# EAGLE library part STM32F407V_NODE6 (library stm32)
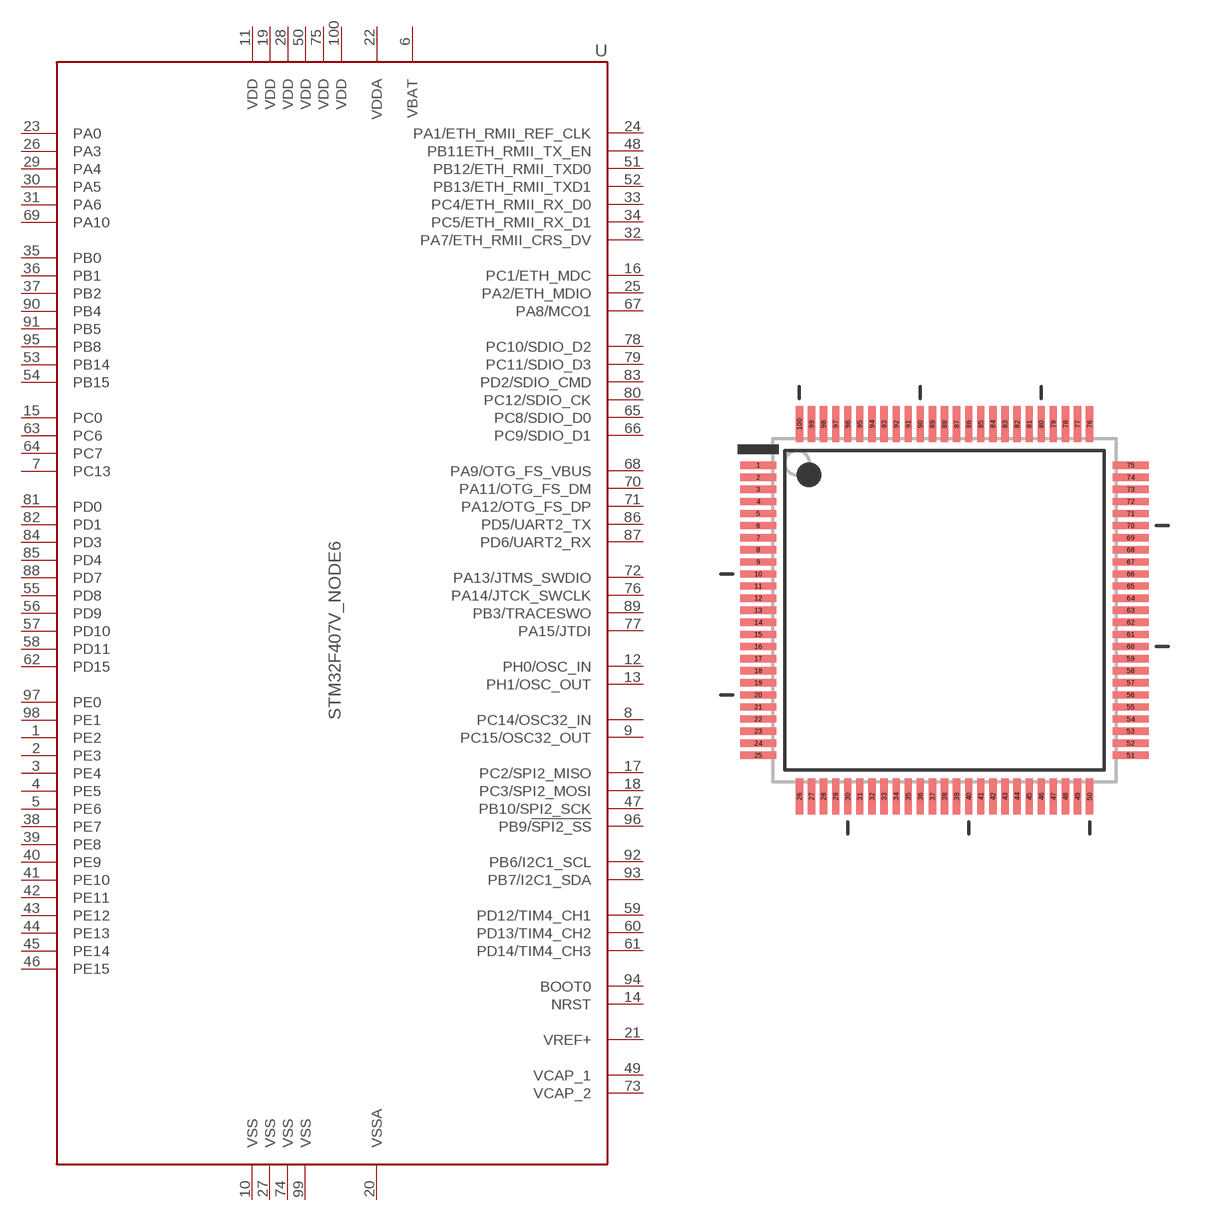
[diagram p1: symbol with the pads of QFP50P1600X1600X160-100N; footprint QFP50P1600X1600X160-100N]

Designator prefix U

## STM32F407V_NODE6/LQFP100  [QFP50P1600X1600X160-100N]
1  PE2
2  PE3
3  PE4
4  PE5
5  PE6
6  VBAT
7  PC13
8  PC14/OSC32_IN
9  PC15/OSC32_OUT
10  VSS
11  VDD
12  PH0/OSC_IN
13  PH1/OSC_OUT
14  NRST
15  PC0
16  PC1/ETH_MDC
17  PC2/SPI2_MISO
18  PC3/SPI2_MOSI
19  VDD
20  VSSA
21  VREF+
22  VDDA
23  PA0
24  PA1/ETH_RMII_REF_CLK
25  PA2/ETH_MDIO
26  PA3
27  VSS
28  VDD
29  PA4
30  PA5
31  PA6
32  PA7/ETH_RMII_CRS_DV
33  PC4/ETH_RMII_RX_D0
34  PC5/ETH_RMII_RX_D1
35  PB0
36  PB1
37  PB2
38  PE7
39  PE8
40  PE9
41  PE10
42  PE11
43  PE12
44  PE13
45  PE14
46  PE15
47  PB10/SPI2_SCK
48  PB11ETH_RMII_TX_EN
49  VCAP_1
50  VDD
51  PB12/ETH_RMII_TXD0
52  PB13/ETH_RMII_TXD1
53  PB14
54  PB15
55  PD8
56  PD9
57  PD10
58  PD11
59  PD12/TIM4_CH1
60  PD13/TIM4_CH2
61  PD14/TIM4_CH3
62  PD15
63  PC6
64  PC7
65  PC8/SDIO_D0
66  PC9/SDIO_D1
67  PA8/MCO1
68  PA9/OTG_FS_VBUS
69  PA10
70  PA11/OTG_FS_DM
71  PA12/OTG_FS_DP
72  PA13/JTMS_SWDIO
73  VCAP_2
74  VSS
75  VDD
76  PA14/JTCK_SWCLK
77  PA15/JTDI
78  PC10/SDIO_D2
79  PC11/SDIO_D3
80  PC12/SDIO_CK
81  PD0
82  PD1
83  PD2/SDIO_CMD
84  PD3
85  PD4
86  PD5/UART2_TX
87  PD6/UART2_RX
88  PD7
89  PB3/TRACESWO
90  PB4
91  PB5
92  PB6/I2C1_SCL
93  PB7/I2C1_SDA
94  BOOT0
95  PB8
96  PB9/!SPI2_SS
97  PE0
98  PE1
99  VSS
100  VDD

## Footprint QFP50P1600X1600X160-100N (pad centres in mm)
smd 1.5 x 0.3: 1 -7.7,6; 2 -7.7,5.5; 3 -7.7,5; 4 -7.7,4.5; 5 -7.7,4; 6 -7.7,3.5; 7 -7.7,3; 8 -7.7,2.5; 9 -7.7,2; 10 -7.7,1.5; 11 -7.7,1; 12 -7.7,0.5; 13 -7.7,0; 14 -7.7,-0.5; 15 -7.7,-1; 16 -7.7,-1.5; 17 -7.7,-2; 18 -7.7,-2.5; 19 -7.7,-3; 20 -7.7,-3.5; 21 -7.7,-4; 22 -7.7,-4.5; 23 -7.7,-5; 24 -7.7,-5.5; 25 -7.7,-6; 51 7.7,-6; 52 7.7,-5.5; 53 7.7,-5; 54 7.7,-4.5; 55 7.7,-4; 56 7.7,-3.5; 57 7.7,-3; 58 7.7,-2.5; 59 7.7,-2; 60 7.7,-1.5; 61 7.7,-1; 62 7.7,-0.5; 63 7.7,0; 64 7.7,0.5; 65 7.7,1; 66 7.7,1.5; 67 7.7,2; 68 7.7,2.5; 69 7.7,3; 70 7.7,3.5; 71 7.7,4; 72 7.7,4.5; 73 7.7,5; 74 7.7,5.5; 75 7.7,6
smd 0.3 x 1.5: 26 -6,-7.7; 27 -5.5,-7.7; 28 -5,-7.7; 29 -4.5,-7.7; 30 -4,-7.7; 31 -3.5,-7.7; 32 -3,-7.7; 33 -2.5,-7.7; 34 -2,-7.7; 35 -1.5,-7.7; 36 -1,-7.7; 37 -0.5,-7.7; 38 0,-7.7; 39 0.5,-7.7; 40 1,-7.7; 41 1.5,-7.7; 42 2,-7.7; 43 2.5,-7.7; 44 3,-7.7; 45 3.5,-7.7; 46 4,-7.7; 47 4.5,-7.7; 48 5,-7.7; 49 5.5,-7.7; 50 6,-7.7; 76 6,7.7; 77 5.5,7.7; 78 5,7.7; 79 4.5,7.7; 80 4,7.7; 81 3.5,7.7; 82 3,7.7; 83 2.5,7.7; 84 2,7.7; 85 1.5,7.7; 86 1,7.7; 87 0.5,7.7; 88 0,7.7; 89 -0.5,7.7; 90 -1,7.7; 91 -1.5,7.7; 92 -2,7.7; 93 -2.5,7.7; 94 -3,7.7; 95 -3.5,7.7; 96 -4,7.7; 97 -4.5,7.7; 98 -5,7.7; 99 -5.5,7.7; 100 -6,7.7